# EAGLE library part STRAWSON_EAGLE_LIB_JST_SH_6 (library BeagleBone_Blue)
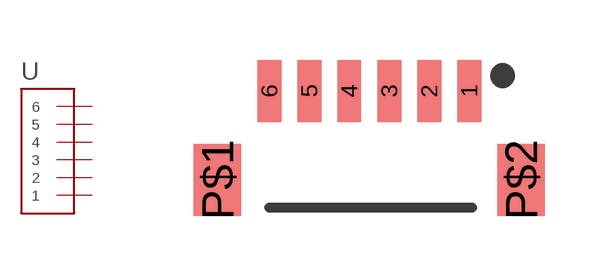
[diagram p17: symbol with the pads of STRAWSON_EAGLE_LIB_JST_SH_6; footprint STRAWSON_EAGLE_LIB_JST_SH_6]

Designator prefix -

## STRAWSON_EAGLE_LIB_JST_SH_6  [STRAWSON_EAGLE_LIB_JST_SH_6]
1  1
2  2
3  3
4  4
5  5
6  6

## Footprint STRAWSON_EAGLE_LIB_JST_SH_6 (pad centres in mm)
smd 0.6 x 1.55: 1 5,0; 2 4,0; 3 3,0; 4 2,0; 5 1,0; 6 0,0
smd 1.2 x 1.8: P$1 -1.3,-2.225; P$2 6.3,-2.225